# EAGLE library part SLIDE-SWITCH4/2 (library my)
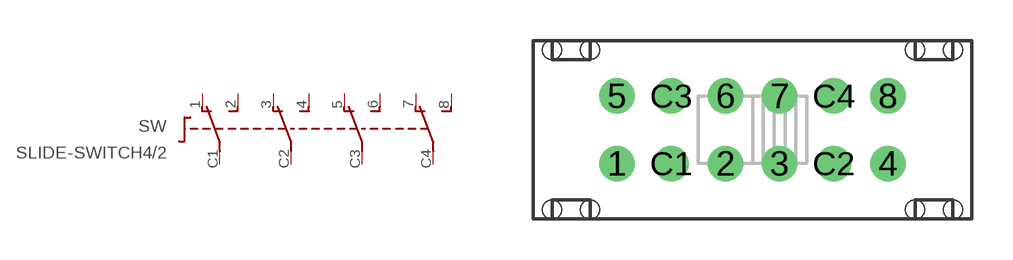
[diagram p10: symbol with the pads of SLIDE-SWITCH-MCS421N; footprint SLIDE-SWITCH-MCS421N]

Designator prefix SW

## SLIDE-SWITCH4/2  [SLIDE-SWITCH-MCS421N]
1  O1  pas
2  S1  pas
3  O2  pas
4  S2  pas
5  O3  pas
6  S3  pas
7  O4  pas
8  S4  pas
C1  P1  pas
C2  P2  pas
C3  P3  pas
C4  P4  pas

## Footprint SLIDE-SWITCH-MCS421N (pad centres in mm)
drill 0.8: 1 -5,-1.25; 2 -1,-1.25; 3 1,-1.25; 4 5,-1.25; 5 -5,1.25; 6 -1,1.25; 7 1,1.25; 8 5,1.25; C1 -3,-1.25; C2 3,-1.25; C3 -3,1.25; C4 3,1.25
hole 0.7 at -7.4,2.95
hole 0.7 at -6,2.95
hole 0.7 at -7.4,-2.95
hole 0.7 at -6,-2.95
hole 0.7 at 6,-2.95
hole 0.7 at 7.4,-2.95
hole 0.7 at 6,2.95
hole 0.7 at 7.4,2.95